# Altium schematic symbol library IAP15F2K61S2.SchLib: 1 symbol
Pins are listed as number, name and electrical type; pins without a type are passive.

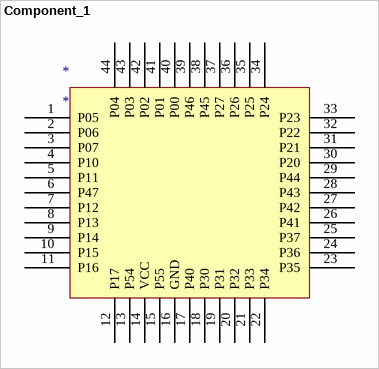
[diagram p0: symbol Component_1]

## Component_1
designator *
pins: 1 P05, 2 P06, 3 P07, 4 P10, 5 P11, 6 P47, 7 P12, 8 P13, 9 P14, 10 P15, 11 P16, 12 P17, 13 P54, 14 VCC, 15 P55, 16 GND, 17 P40, 18 P30, 19 P31, 20 P32, 21 P33, 22 P34, 23 P35, 24 P36, 25 P37, 26 P41, 27 P42, 28 P43, 29 P44, 30 P20, 31 P21, 32 P22, 33 P23, 34 P24, 35 P25, 36 P26, 37 P27, 38 P45, 39 P46, 40 P00, 41 P01, 42 P02, 43 P03, 44 P04